# EAGLE library part 6-PIN-ICSP (library LaunchFET)
6 pin easy-msp formatted headers. Designed to make programming target boards with MSP430 Launchpad easier. EASYMSP: standard .05" pitch header to match launchpad SAFEMSP: .05" header with .025" offset Vcc to keep Geordi away
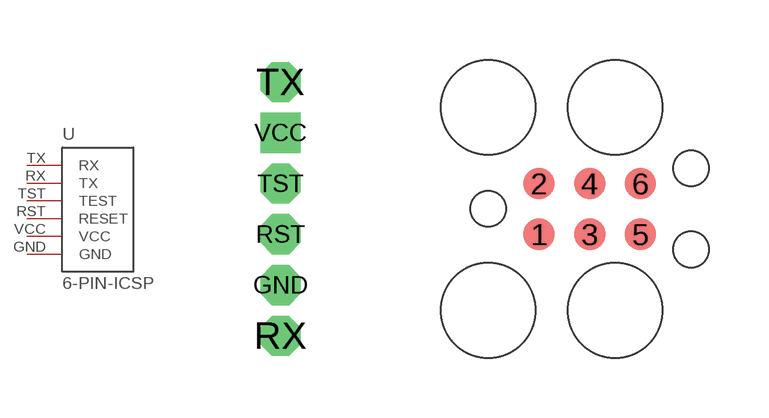
[diagram p0: symbol with the pads of EASYMSP-6PIN; footprints EASYMSP-6PIN, TAGCONNECT-HOLES]

Designator prefix -

## 6-PIN-ICSPEASY-MSP  [EASYMSP-6PIN]
GND  GND
RST  RESET
RX  TX
TST  TEST
TX  RX
VCC  VCC

## 6-PIN-ICSPTAGCONNECT-HOLES  [TAGCONNECT-HOLES]
1  RESET
2  RX
3  TX
4  VCC
5  GND
6  TEST

## 6-PIN-ICSPTAGCONNECT-NO_HOLES  [TAGCONNECT-NO_HOLES]
Pads as for TAGCONNECT-HOLES

## 6-PIN-ICSPSAFE-MSP  [SAFEMSP]
1  VCC
2  TEST
3  TX
4  RESET
5  GND
6  VCC
7  TEST
8  RX
9  RESET
10  GND

## Footprint EASYMSP-6PIN (pad centres in mm)
drill 0.5 octagon: GND 0,-1.27; RST 0,0; RX 0,-2.54; TST 0,1.27; TX 0,3.81
drill 0.5 square: VCC 0,2.54

## Footprint TAGCONNECT-HOLES (pad centres in mm)
smd 0.787 x 0.787: 1 -1.27,-0.635; 2 -1.27,0.635; 3 0,-0.635; 4 0,0.635; 5 1.27,-0.635; 6 1.27,0.635
hole 0.889 at -2.54,0
hole 0.889 at 2.54,-1.016
hole 0.889 at 2.54,1.016
hole 2.375 at -2.54,2.54
hole 2.375 at -2.54,-2.54
hole 2.375 at 0.635,-2.54
hole 2.375 at 0.635,2.54

## Footprint TAGCONNECT-NO_HOLES (pad centres in mm)
smd 0.787 x 0.787: 1 -1.27,-0.635; 2 -1.27,0.635; 3 0,-0.635; 4 0,0.635; 5 1.27,-0.635; 6 1.27,0.635
hole 0.889 at -2.54,0
hole 0.889 at 2.54,-1.016
hole 0.889 at 2.54,1.016

## Footprint SAFEMSP (pad centres in mm)
drill 0.5: 1 0,5.08; 2 0,3.81; 3 0,2.54; 4 0,1.27; 5 0,0; 6 1.27,0; 7 1.27,1.27; 8 1.27,2.54; 9 1.27,3.81; 10 1.27,5.08